# Altium schematic symbol library TCAN1051HGDR.SchLib: 1 symbol
Pins are listed as number, name and electrical type; pins without a type are passive.

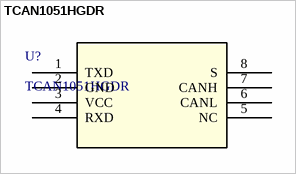
[diagram p0: symbol TCAN1051HGDR]

## TCAN1051HGDR
designator U?
Fault Protected CAN Transceiver With Flexible Data-Rate 8-SOIC -55 to 125; Manufacturer_Name: Texas Instruments; Copyright: Copyright (C) 2026 Ultra Librarian. All rights reserved.; Manufacturer_Part_Number: TCAN1051HGDR; Datasheet: https://www.ti.com/lit/gpn/tcan1051hg; RefDes: RefDes; Type: Type
footprint D8_TEX
pins: 1 TXD, 2 GND (power), 3 VCC (power), 4 RXD, 5 NC, 6 CANL, 7 CANH, 8 S